# Altium footprint library F_THT_5.1MM_10X3X140.PcbLib: 1 footprints
Each footprint in its own frame and in the unit in brackets; x right, y up, seen from the top. Pads: shape width x height; smd on the part's side, far side on the other; paste and mask are expansions set on the pad; w line width, h text height; cw(c..) or ccw(c..) is an arc to the next point about the centre after c.
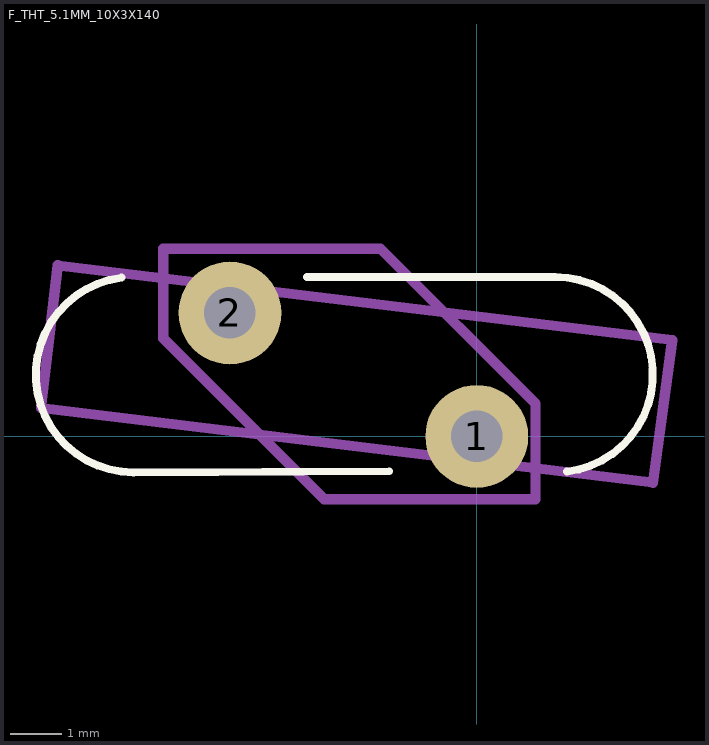
[diagram p0: the footprint, top view; thin cyan lines are the x and y axes]

## F_THT_5.1MM_10X3X140 [mm]
pads (2):
  round 2 hole 1: 1(0,0) 2(-4.8,2.4)
Top Overlay:
  lines w0.152: -6.907,3.086 ccw(c-6.675,1.2) -6.675,-0.7 -1.702,-0.678 ; -3.301,3.1 1.525,3.1 ; 1.524,3.1 cw(c1.524,1.2) 1.756,-0.686
Top Assembly:
  lines w0.2: -8.475,0.55 -8.15,3.325 3.8,1.875 3.425,-0.9 -8.475,0.55
Top Courtyard:
  lines w0.2: -6.096,1.905 -6.096,3.65 -1.872,3.65 1.143,0.635 1.143,-1.225 -2.966,-1.225 -6.096,1.905
3D body "User Library-MF-R250.STEP": height 18.3, standoff -7.6, extent -8.502,-0.93 3.752,3.331